# EAGLE library part ATTINY*8-? (library ic-ATMEL)
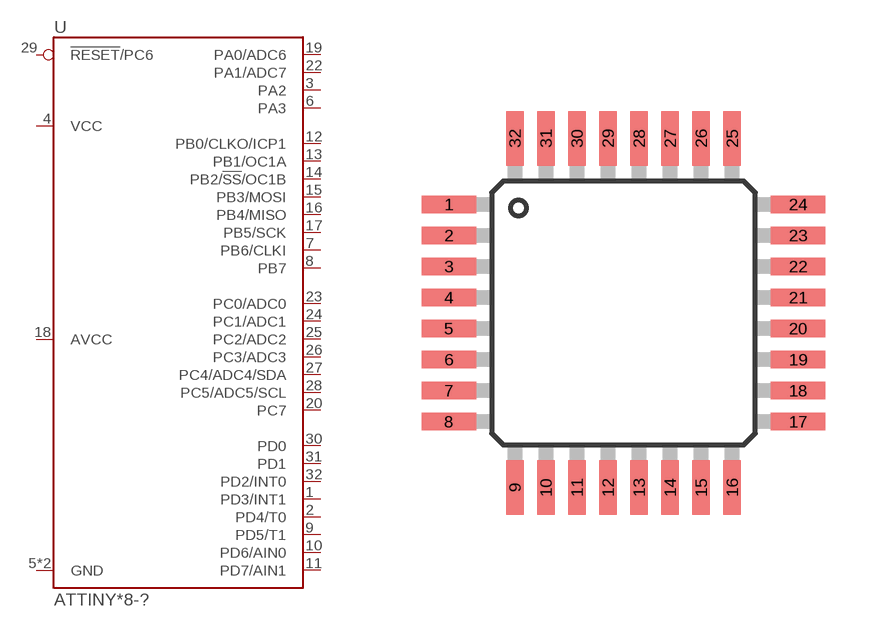
[diagram p20: symbol with the pads of QFP32-0.8; footprint QFP32-0.8]

Designator prefix U

## ATTINY48-AU, ATTINY88-AU  [QFP32-0.8]
1  PD3/INT1
2  PD4/T0
3  PA2
4  VCC
5  GND
6  PA3
7  PB6/CLKI
8  PB7
9  PD5/T1
10  PD6/AIN0
11  PD7/AIN1
12  PB0/CLKO/ICP1
13  PB1/OC1A
14  PB2/!SS!/OC1B
15  PB3/MOSI
16  PB4/MISO
17  PB5/SCK
18  AVCC
19  PA0/ADC6
20  PC7
21  GND
22  PA1/ADC7
23  PC0/ADC0
24  PC1/ADC1
25  PC2/ADC2
26  PC3/ADC3
27  PC4/ADC4/SDA
28  PC5/ADC5/SCL
29  !RESET!/PC6
30  PD0
31  PD1
32  PD2/INT0

## Footprint QFP32-0.8 (pad centres in mm)
smd 1.4 x 0.45: 1 -4.5,2.8; 2 -4.5,2; 3 -4.5,1.2; 4 -4.5,0.4; 5 -4.5,-0.4; 6 -4.5,-1.2; 7 -4.5,-2; 8 -4.5,-2.8; 17 4.5,-2.8; 18 4.5,-2; 19 4.5,-1.2; 20 4.5,-0.4; 21 4.5,0.4; 22 4.5,1.2; 23 4.5,2; 24 4.5,2.8
smd 0.45 x 1.4: 9 -2.8,-4.5; 10 -2,-4.5; 11 -1.2,-4.5; 12 -0.4,-4.5; 13 0.4,-4.5; 14 1.2,-4.5; 15 2,-4.5; 16 2.8,-4.5; 25 2.8,4.5; 26 2,4.5; 27 1.2,4.5; 28 0.4,4.5; 29 -0.4,4.5; 30 -1.2,4.5; 31 -2,4.5; 32 -2.8,4.5